# Altium integrated library EK-TM4C123GXL.IntLib: 1 symbol
Pins are listed as number, name and electrical type; pins without a type are passive.

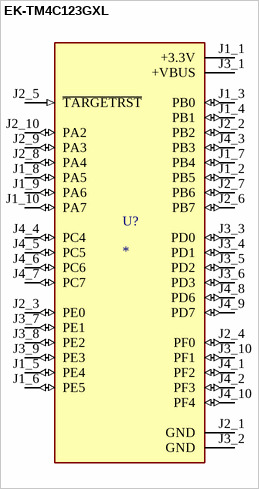
[diagram p0: symbol EK-TM4C123GXL]

## EK-TM4C123GXL
designator U?
ARMÂ® CortexÂ®-M4F Based MCU TM4C123G LaunchPadâ„¢ Evaluation Kit; MP: EK-TM4C123GXL; MF: Texas Instruments; Price: None; Package: None; Purchase-URL: https://pricing.snapeda.com/search/part/EK-TM4C123GXL/?ref=eda; Availability: Warning; SnapEDA_Link: https://www.snapeda.com/parts/EK-TM4C123GXL/Texas%20Instruments/view-part/132968/?ref=snap; Check_prices: https://www.snapeda.com/parts/EK-TM4C123GXL/Texas%20Instruments/view-part/132968/?ref=eda; Value: *
footprint MODULE_EK-TM4C123GXL
pins: J1_1 +3.3V (power), J1_2 PB5 (io), J1_3 PB0 (io), J1_4 PB1 (io), J1_5 PE4 (io), J1_6 PE5 (io), J1_7 PB4 (io), J1_8 PA5 (io), J1_9 PA6 (io), J1_10 PA7 (io), J2_1 GND (power), J2_2 PB2 (io), J2_3 PE0 (io), J2_4 PF0 (io), J2_5 ~{TARGETRST} (in), J2_6 PB7 (io), J2_7 PB6 (io), J2_8 PA4 (io), J2_9 PA3 (io), J2_10 PA2 (io), J3_1 +VBUS (power), J3_2 GND (power), J3_3 PD0 (io), J3_4 PD1 (io), J3_5 PD2 (io), J3_6 PD3 (io), J3_7 PE1 (io), J3_8 PE2 (io), J3_9 PE3 (io), J3_10 PF1 (io), J4_1 PF2 (io), J4_2 PF3 (io), J4_3 PB3 (io), J4_4 PC4 (io), J4_5 PC5 (io), J4_6 PC6 (io), J4_7 PC7 (io), J4_8 PD6 (io), J4_9 PD7 (io), J4_10 PF4 (io)